# Altium schematic symbol library SCH - POWER - SWITCHMODE - XLSEMI XL6007E1.SchLib: 1 symbol
Pins are listed as number, name and electrical type; pins without a type are passive.

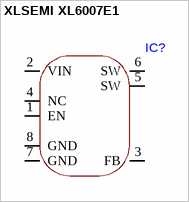
[diagram p0: symbol XLSEMI XL6007E1]

## XLSEMI XL6007E1
designator IC?
pins: 1 EN, 2 VIN, 3 FB, 4 NC, 5 SW, 6 SW, 7 GND, 8 GND